# EAGLE library part DF40 (library connectors)
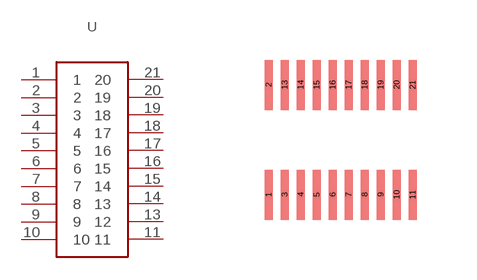
[diagram p12: symbol with the pads of DF40; footprint DF40]

Designator prefix -

## DF40  [DF40]
1  1
2  2
3  3
4  4
5  5
6  6
7  7
8  8
9  9
10  10
11  11
13  12
14  13
15  14
16  15
17  16
18  17
19  18
20  19
21  20

## Footprint DF40 (pad centres in mm)
smd 0.2 x 1.25: 1 0,-1.375; 2 0,1.375; 3 0.4,-1.375; 4 0.8,-1.375; 5 1.2,-1.375; 6 1.6,-1.375; 7 2,-1.375; 8 2.4,-1.375; 9 2.8,-1.375; 10 3.2,-1.375; 11 3.6,-1.375; 13 0.4,1.375; 14 0.8,1.375; 15 1.2,1.375; 16 1.6,1.375; 17 2,1.375; 18 2.4,1.375; 19 2.8,1.375; 20 3.2,1.375; 21 3.6,1.375